# Altium schematic symbol library Altium_Box_Header_MPC3.SchLib: 202 symbols (part 3 of 5)
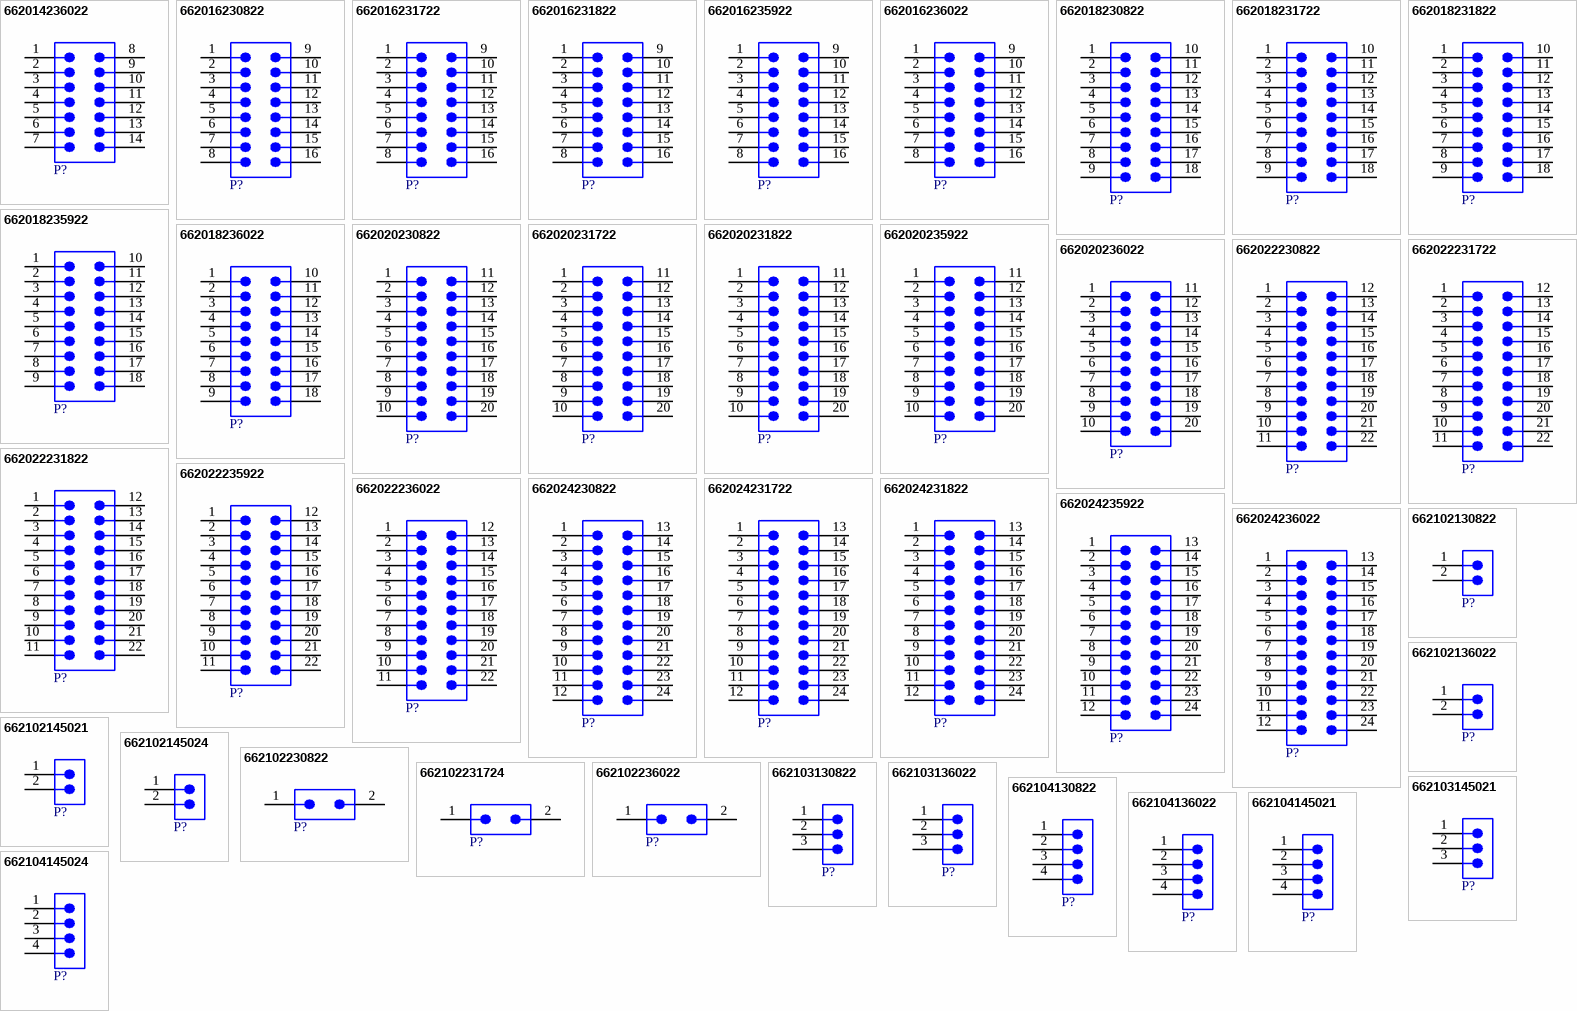
[diagram p7: symbols 662014236022 to 662104145024]

## 662022235922
designator P?  (value not drawn)
WR-MPC3 SMT Male Vertical Header with THT Retention Clip, pitch 3mm, 22p; Manufacturer: Wurth Elektronik; Contact Resistance: 10mOhm; Insulation Resistance: >1000MOhm; Rated Current: 5A; Working Voltage: 250V (AC); Manufacturer Part Number: 662022235922; Category: Wire-to-Board Connectors; Match Code: WR-MPC3; ComponentLink1Description: Datasheet; ComponentLink1URL: https://www.we-online.com/redexpert/spec/662022235922?ad; Mount: Surface Mount; Operating Temperature Max: 105°C; Operating Temperature Min: -40°C; Packaging: Tube; Length: 36.7mm; Width: 11.4mm; Height: 9.9mm; Gender: Male; Number of Pins: 22; Number of Rows: 2; Orientation: Vertical; Pitch: 3mm; LCSC Part #: N/A; Supplier 1: Mouser; Supplier 1 Part Number: N/A; Supplier 1 URL: N/A; Supplier 2: Digi-Key; Supplier 2 Part Number: N/A; Supplier 2 URL: N/A; Supplier 3: thegioiic; Supplier 3 Part Number: N/A; Supplier 3 URL: N/A
footprint 662022235922
pins: 1, 2, 3, 4, 5, 6, 7, 8, 9, 10, 11, 12, 13, 14, 15, 16, 17, 18, 19, 20, 21, 22

## 662022236022
designator P?  (value not drawn)
WR-MPC3 SMT Male Right Angled Header with Plastic Pegs, pitch 3mm, 22p; Manufacturer: Wurth Elektronik; Contact Resistance: 10mOhm; Insulation Resistance: >1000MOhm; Rated Current: 5A; Working Voltage: 250V (AC); Manufacturer Part Number: 662022236022; Category: Wire-to-Board Connectors; Match Code: WR-MPC3; ComponentLink1Description: Datasheet; ComponentLink1URL: https://www.we-online.com/redexpert/spec/662022236022?ad; Mount: Surface Mount; Operating Temperature Max: 105°C; Operating Temperature Min: -40°C; Packaging: Tube; Length: 36.7mm; Width: 9.9mm; Height: 8.76mm; Gender: Male; Number of Pins: 22; Number of Rows: 2; Orientation: Right Angled; Pitch: 3mm; LCSC Part #: N/A; Supplier 1: Mouser; Supplier 1 Part Number: N/A; Supplier 1 URL: N/A; Supplier 2: Digi-Key; Supplier 2 Part Number: N/A; Supplier 2 URL: N/A; Supplier 3: thegioiic; Supplier 3 Part Number: N/A; Supplier 3 URL: N/A
footprint 662022236022
pins: 1, 2, 3, 4, 5, 6, 7, 8, 9, 10, 11, 12, 13, 14, 15, 16, 17, 18, 19, 20, 21, 22

## 662024230822
designator P?  (value not drawn)
WR-MPC3 SMT Male Right Angled Header with THT Retention Clip, pitch 3mm, 24p; Manufacturer: Wurth Elektronik; Contact Resistance: 10mOhm; Insulation Resistance: >1000MOhm; Rated Current: 5A; Working Voltage: 250V (AC); Manufacturer Part Number: 662024230822; Category: Wire-to-Board Connectors; Match Code: WR-MPC3; ComponentLink1Description: Datasheet; ComponentLink1URL: https://www.we-online.com/redexpert/spec/662024230822?ad; Mount: Surface Mount; Operating Temperature Max: 105°C; Operating Temperature Min: -40°C; Packaging: Tube; Length: 39.7mm; Width: 9.9mm; Height: 8.76mm; Gender: Male; Number of Pins: 24; Number of Rows: 2; Orientation: Right Angled; Pitch: 3mm; LCSC Part #: N/A; Supplier 1: Mouser; Supplier 1 Part Number: N/A; Supplier 1 URL: N/A; Supplier 2: Digi-Key; Supplier 2 Part Number: N/A; Supplier 2 URL: N/A; Supplier 3: thegioiic; Supplier 3 Part Number: N/A; Supplier 3 URL: N/A
footprint 662024230822
pins: 1, 2, 3, 4, 5, 6, 7, 8, 9, 10, 11, 12, 13, 14, 15, 16, 17, 18, 19, 20, 21, 22, 23, 24

## 662024231722
designator P?  (value not drawn)
WR-MPC3 SMT Male Right Angled Header with SMT Solder Tab, pitch 3mm, 24p; Manufacturer: Wurth Elektronik; Contact Resistance: 10mOhm; Insulation Resistance: >1000MOhm; Rated Current: 5A; Working Voltage: 250V (AC); Manufacturer Part Number: 662024231722; Category: Wire-to-Board Connectors; Match Code: WR-MPC3; ComponentLink1Description: Datasheet; ComponentLink1URL: https://www.we-online.com/redexpert/spec/662024231722?ad; Mount: Surface Mount; Operating Temperature Max: 105°C; Operating Temperature Min: -40°C; Packaging: Tray; Length: 39.7mm; Width: 9.9mm; Height: 8.76mm; Gender: Male; Number of Pins: 24; Number of Rows: 2; Orientation: Right Angled; Pitch: 3mm; LCSC Part #: N/A; Supplier 1: Mouser; Supplier 1 Part Number: N/A; Supplier 1 URL: N/A; Supplier 2: Digi-Key; Supplier 2 Part Number: N/A; Supplier 2 URL: N/A; Supplier 3: thegioiic; Supplier 3 Part Number: N/A; Supplier 3 URL: N/A
footprint 662024231722
pins: 1, 2, 3, 4, 5, 6, 7, 8, 9, 10, 11, 12, 13, 14, 15, 16, 17, 18, 19, 20, 21, 22, 23, 24

## 662024231822
designator P?  (value not drawn)
WR-MPC3 SMT Male Vertical Header with SMT Solder Tab, pitch 3mm, 24p; Manufacturer: Wurth Elektronik; Contact Resistance: 10mOhm; Insulation Resistance: >1000MOhm; Rated Current: 5A; Working Voltage: 250V (AC); Manufacturer Part Number: 662024231822; Category: Wire-to-Board Connectors; Match Code: WR-MPC3; ComponentLink1Description: Datasheet; ComponentLink1URL: https://www.we-online.com/redexpert/spec/662024231822?ad; Mount: Surface Mount; Operating Temperature Max: 105°C; Operating Temperature Min: -40°C; Packaging: Tray; Length: 39.7mm; Width: 11.4mm; Height: 9.9mm; Gender: Male; Number of Pins: 24; Number of Rows: 2; Orientation: Vertical; Pitch: 3mm; LCSC Part #: N/A; Supplier 1: Mouser; Supplier 1 Part Number: N/A; Supplier 1 URL: N/A; Supplier 2: Digi-Key; Supplier 2 Part Number: N/A; Supplier 2 URL: N/A; Supplier 3: thegioiic; Supplier 3 Part Number: N/A; Supplier 3 URL: N/A
footprint 662024231822
pins: 1, 2, 3, 4, 5, 6, 7, 8, 9, 10, 11, 12, 13, 14, 15, 16, 17, 18, 19, 20, 21, 22, 23, 24

## 662024235922
designator P?  (value not drawn)
WR-MPC3 SMT Male Vertical Header with THT Retention Clip, pitch 3mm, 24p; Manufacturer: Wurth Elektronik; Contact Resistance: 10mOhm; Insulation Resistance: >1000MOhm; Rated Current: 5A; Working Voltage: 250V (AC); Manufacturer Part Number: 662024235922; Category: Wire-to-Board Connectors; Match Code: WR-MPC3; ComponentLink1Description: Datasheet; ComponentLink1URL: https://www.we-online.com/redexpert/spec/662024235922?ad; Mount: Surface Mount; Operating Temperature Max: 105°C; Operating Temperature Min: -40°C; Packaging: Tube; Length: 39.7mm; Width: 11.4mm; Height: 9.9mm; Gender: Male; Number of Pins: 24; Number of Rows: 2; Orientation: Vertical; Pitch: 3mm; LCSC Part #: N/A; Supplier 1: Mouser; Supplier 1 Part Number: N/A; Supplier 1 URL: N/A; Supplier 2: Digi-Key; Supplier 2 Part Number: N/A; Supplier 2 URL: N/A; Supplier 3: thegioiic; Supplier 3 Part Number: N/A; Supplier 3 URL: N/A
footprint 662024235922
pins: 1, 2, 3, 4, 5, 6, 7, 8, 9, 10, 11, 12, 13, 14, 15, 16, 17, 18, 19, 20, 21, 22, 23, 24

## 662024236022
designator P?  (value not drawn)
WR-MPC3 SMT Male Right Angled Header with Plastic Pegs, pitch 3mm, 24p; Manufacturer: Wurth Elektronik; Contact Resistance: 10mOhm; Insulation Resistance: >1000MOhm; Rated Current: 5A; Working Voltage: 250V (AC); Manufacturer Part Number: 662024236022; Category: Wire-to-Board Connectors; Match Code: WR-MPC3; ComponentLink1Description: Datasheet; ComponentLink1URL: https://www.we-online.com/redexpert/spec/662024236022?ad; Mount: Surface Mount; Operating Temperature Max: 105°C; Operating Temperature Min: -40°C; Packaging: Tube; Length: 39.7mm; Width: 9.9mm; Height: 8.76mm; Gender: Male; Number of Pins: 24; Number of Rows: 2; Orientation: Right Angled; Pitch: 3mm; LCSC Part #: N/A; Supplier 1: Mouser; Supplier 1 Part Number: N/A; Supplier 1 URL: N/A; Supplier 2: Digi-Key; Supplier 2 Part Number: N/A; Supplier 2 URL: N/A; Supplier 3: thegioiic; Supplier 3 Part Number: N/A; Supplier 3 URL: N/A
footprint 662024236022
pins: 1, 2, 3, 4, 5, 6, 7, 8, 9, 10, 11, 12, 13, 14, 15, 16, 17, 18, 19, 20, 21, 22, 23, 24

## 662102130822
designator P?  (value not drawn)
WR-MPC3 SMT Male Right Angled Header with THT Retention Clip, pitch 3mm, 2p; Manufacturer: Wurth Elektronik; Contact Resistance: 10mOhm; Insulation Resistance: >1000MOhm; Rated Current: 5A; Working Voltage: 250V (AC); Manufacturer Part Number: 662102130822; Category: Wire-to-Board Connectors; Match Code: WR-MPC3; ComponentLink1Description: Datasheet; ComponentLink1URL: https://www.we-online.com/redexpert/spec/662102130822?ad; Mount: Surface Mount; Operating Temperature Max: 105°C; Operating Temperature Min: -40°C; Packaging: Tape and Reel; Length: 9.65mm; Width: 11.35mm; Height: 5.57mm; Gender: Male; Number of Pins: 2; Number of Rows: 1; Orientation: Right Angled; Pitch: 3mm; LCSC Part #: N/A; Supplier 1: Mouser; Supplier 1 Part Number: N/A; Supplier 1 URL: N/A; Supplier 2: Digi-Key; Supplier 2 Part Number: N/A; Supplier 2 URL: N/A; Supplier 3: thegioiic; Supplier 3 Part Number: N/A; Supplier 3 URL: N/A
footprint 662102130822
pins: 1, 2

## 662102136022
designator P?  (value not drawn)
WR-MPC3 SMT Male Right Angled Header with Snap-In Plastic Pegs, pitch 3mm, 2p; Manufacturer: Wurth Elektronik; Contact Resistance: 10mOhm; Insulation Resistance: >1000MOhm; Rated Current: 5A; Working Voltage: 250V (AC); Manufacturer Part Number: 662102136022; Category: Wire-to-Board Connectors; Match Code: WR-MPC3; ComponentLink1Description: Datasheet; ComponentLink1URL: https://www.we-online.com/redexpert/spec/662102136022?ad; Mount: Surface Mount; Operating Temperature Max: 105°C; Operating Temperature Min: -40°C; Packaging: Tape and Reel; Length: 9.65mm; Width: 11.35mm; Height: 5.57mm; Gender: Male; Number of Pins: 2; Number of Rows: 1; Orientation: Right Angled; Pitch: 3mm; LCSC Part #: N/A; Supplier 1: Mouser; Supplier 1 Part Number: N/A; Supplier 1 URL: N/A; Supplier 2: Digi-Key; Supplier 2 Part Number: N/A; Supplier 2 URL: N/A; Supplier 3: thegioiic; Supplier 3 Part Number: N/A; Supplier 3 URL: N/A
footprint 662102136022
pins: 1, 2

## 662102145021
designator P?  (value not drawn)
WR-MPC3 SMT Male Right Angled Header with SMT Solder Tabs, pitch 3mm, 2p; Manufacturer: Wurth Elektronik; Contact Resistance: 10mOhm; Insulation Resistance: >1000MOhm; Rated Current: 5A; Working Voltage: 250V (AC); Manufacturer Part Number: 662102145021; Category: Wire-to-Board Connectors; Match Code: WR-MPC3; ComponentLink1Description: Datasheet; ComponentLink1URL: https://www.we-online.com/redexpert/spec/662102145021?ad; Mount: Surface Mount; Operating Temperature Max: 105°C; Operating Temperature Min: -40°C; Packaging: Tape and Reel; Length: 9.65mm; Width: 11.35mm; Height: 5.57mm; Gender: Male; Number of Pins: 2; Number of Rows: 1; Orientation: Right Angled; Pitch: 3mm; LCSC Part #: N/A; Supplier 1: Mouser; Supplier 1 Part Number: N/A; Supplier 1 URL: N/A; Supplier 2: Digi-Key; Supplier 2 Part Number: N/A; Supplier 2 URL: N/A; Supplier 3: thegioiic; Supplier 3 Part Number: N/A; Supplier 3 URL: N/A
footprint 662102145021
pins: 1, 2

## 662102145024
designator P?  (value not drawn)
WR-MPC3 SMT Male Header Single Row Right Angled with SMT Solder Tabs (Selective Gold), pitch 3mm, 2p; Manufacturer: Wurth Elektronik; Contact Resistance: 10mOhm; Insulation Resistance: >1000MOhm; Rated Current: 5A; Working Voltage: 250V (AC); Manufacturer Part Number: 662102145024; Category: Wire-to-Board Connectors; Match Code: WR-MPC3; ComponentLink1Description: Datasheet; ComponentLink1URL: https://www.we-online.com/redexpert/spec/662102145024?ad; Mount: Surface Mount; Operating Temperature Max: 105°C; Operating Temperature Min: -40°C; Packaging: Tape and Reel; Gender: Male; Number of Pins: 2; Number of Rows: 1; Orientation: Right Angled; Pitch: 3mm; LCSC Part #: N/A; Supplier 1: Mouser; Supplier 1 Part Number: N/A; Supplier 1 URL: N/A; Supplier 2: Digi-Key; Supplier 2 Part Number: N/A; Supplier 2 URL: N/A; Supplier 3: thegioiic; Supplier 3 Part Number: N/A; Supplier 3 URL: N/A
footprint 662102145024
pins: 1, 2

## 662102230822
designator P?  (value not drawn)
WR-MPC3 SMT Male Right Angled Header with THT Retention Clip, pitch 3mm, 2p; Manufacturer: Wurth Elektronik; Contact Resistance: 10mOhm; Insulation Resistance: >1000MOhm; Rated Current: 5A; Working Voltage: 250V (AC); Manufacturer Part Number: 662102230822; Category: Wire-to-Board Connectors; Match Code: WR-MPC3; ComponentLink1Description: Datasheet; ComponentLink1URL: https://www.we-online.com/redexpert/spec/662102230822?ad; Mount: Surface Mount; Operating Temperature Max: 105°C; Operating Temperature Min: -40°C; Packaging: Tape and Reel; Length: 6.7mm; Width: 15.9mm; Height: 8.76mm; Gender: Male; Number of Pins: 2; Number of Rows: 2; Orientation: Right Angled; Pitch: 3mm; LCSC Part #: N/A; Supplier 1: Mouser; Supplier 1 Part Number: N/A; Supplier 1 URL: N/A; Supplier 2: Digi-Key; Supplier 2 Part Number: N/A; Supplier 2 URL: N/A; Supplier 3: thegioiic; Supplier 3 Part Number: N/A; Supplier 3 URL: N/A
footprint 662102230822
pins: 1, 2

## 662102231724
designator P?  (value not drawn)
WR-MPC3 SMT Male Header Dual Row Right Angled with SMT Solder Tabs (Selective Gold), pitch 3mm, 2p; Manufacturer: Wurth Elektronik; Contact Resistance: 10mOhm; Insulation Resistance: >1000MOhm; Rated Current: 5A; Working Voltage: 250V (AC); Manufacturer Part Number: 662102231724; Category: Wire-to-Board Connectors; Match Code: WR-MPC3; ComponentLink1Description: Datasheet; ComponentLink1URL: https://www.we-online.com/redexpert/spec/662102231724?ad; Mount: Surface Mount; Operating Temperature Max: 105°C; Operating Temperature Min: -40°C; Packaging: Tape and Reel; Gender: Male; Number of Pins: 2; Number of Rows: 2; Orientation: Right Angled; Pitch: 3mm; LCSC Part #: N/A; Supplier 1: Mouser; Supplier 1 Part Number: N/A; Supplier 1 URL: N/A; Supplier 2: Digi-Key; Supplier 2 Part Number: N/A; Supplier 2 URL: N/A; Supplier 3: thegioiic; Supplier 3 Part Number: N/A; Supplier 3 URL: N/A
footprint 662102231724
pins: 1, 2

## 662102236022
designator P?  (value not drawn)
WR-MPC3 SMT Male Right Angled Header with Plastic Pegs, pitch 3mm, 2p; Manufacturer: Wurth Elektronik; Contact Resistance: 10mOhm; Insulation Resistance: >1000MOhm; Rated Current: 5A; Working Voltage: 250V (AC); Manufacturer Part Number: 662102236022; Category: Wire-to-Board Connectors; Match Code: WR-MPC3; ComponentLink1Description: Datasheet; ComponentLink1URL: https://www.we-online.com/redexpert/spec/662102236022?ad; Mount: Surface Mount; Operating Temperature Max: 105°C; Operating Temperature Min: -40°C; Packaging: Tape and Reel; Length: 6.7mm; Width: 9.9mm; Height: 8.76mm; Gender: Male; Number of Pins: 2; Number of Rows: 2; Orientation: Right Angled; Pitch: 3mm; LCSC Part #: N/A; Supplier 1: Mouser; Supplier 1 Part Number: N/A; Supplier 1 URL: N/A; Supplier 2: Digi-Key; Supplier 2 Part Number: N/A; Supplier 2 URL: N/A; Supplier 3: thegioiic; Supplier 3 Part Number: N/A; Supplier 3 URL: N/A
footprint 662102236022
pins: 1, 2

## 662103130822
designator P?  (value not drawn)
WR-MPC3 SMT Male Right Angled Header with THT Retention Clip, pitch 3mm, 3p; Manufacturer: Wurth Elektronik; Contact Resistance: 10mOhm; Insulation Resistance: >1000MOhm; Rated Current: 5A; Working Voltage: 250V (AC); Manufacturer Part Number: 662103130822; Category: Wire-to-Board Connectors; Match Code: WR-MPC3; ComponentLink1Description: Datasheet; ComponentLink1URL: https://www.we-online.com/redexpert/spec/662103130822?ad; Mount: Surface Mount; Operating Temperature Max: 105°C; Operating Temperature Min: -40°C; Packaging: Tape and Reel; Length: 12.65mm; Width: 11.35mm; Height: 5.57mm; Gender: Male; Number of Pins: 3; Number of Rows: 1; Orientation: Right Angled; Pitch: 3mm; LCSC Part #: N/A; Supplier 1: Mouser; Supplier 1 Part Number: N/A; Supplier 1 URL: N/A; Supplier 2: Digi-Key; Supplier 2 Part Number: N/A; Supplier 2 URL: N/A; Supplier 3: thegioiic; Supplier 3 Part Number: N/A; Supplier 3 URL: N/A
footprint 662103130822
pins: 1, 2, 3

## 662103136022
designator P?  (value not drawn)
WR-MPC3 SMT Male Right Angled Header with Snap-In Plastic Pegs, pitch 3mm, 3p; Manufacturer: Wurth Elektronik; Contact Resistance: 10mOhm; Insulation Resistance: >1000MOhm; Rated Current: 5A; Working Voltage: 250V (AC); Manufacturer Part Number: 662103136022; Category: Wire-to-Board Connectors; Match Code: WR-MPC3; ComponentLink1Description: Datasheet; ComponentLink1URL: https://www.we-online.com/redexpert/spec/662103136022?ad; Mount: Surface Mount; Operating Temperature Max: 105°C; Operating Temperature Min: -40°C; Packaging: Tape and Reel; Length: 12.65mm; Width: 11.35mm; Height: 5.57mm; Gender: Male; Number of Pins: 3; Number of Rows: 1; Orientation: Right Angled; Pitch: 3mm; LCSC Part #: N/A; Supplier 1: Mouser; Supplier 1 Part Number: N/A; Supplier 1 URL: N/A; Supplier 2: Digi-Key; Supplier 2 Part Number: N/A; Supplier 2 URL: N/A; Supplier 3: thegioiic; Supplier 3 Part Number: N/A; Supplier 3 URL: N/A
footprint 662103136022
pins: 1, 2, 3

## 662103145021
designator P?  (value not drawn)
WR-MPC3 SMT Male Right Angled Header with SMT Solder Tabs, pitch 3mm, 3p; Manufacturer: Wurth Elektronik; Contact Resistance: 10mOhm; Insulation Resistance: >1000MOhm; Rated Current: 5A; Working Voltage: 250V (AC); Manufacturer Part Number: 662103145021; Category: Wire-to-Board Connectors; Match Code: WR-MPC3; ComponentLink1Description: Datasheet; ComponentLink1URL: https://www.we-online.com/redexpert/spec/662103145021?ad; Mount: Surface Mount; Operating Temperature Max: 105°C; Operating Temperature Min: -40°C; Packaging: Tape and Reel; Length: 12.65mm; Width: 11.35mm; Height: 5.57mm; Gender: Male; Number of Pins: 3; Number of Rows: 1; Orientation: Right Angled; Pitch: 3mm; LCSC Part #: N/A; Supplier 1: Mouser; Supplier 1 Part Number: N/A; Supplier 1 URL: N/A; Supplier 2: Digi-Key; Supplier 2 Part Number: N/A; Supplier 2 URL: N/A; Supplier 3: thegioiic; Supplier 3 Part Number: N/A; Supplier 3 URL: N/A
footprint 662103145021
pins: 1, 2, 3

## 662104130822
designator P?  (value not drawn)
WR-MPC3 SMT Male Right Angled Header with THT Retention Clip, pitch 3mm, 4p; Manufacturer: Wurth Elektronik; Contact Resistance: 10mOhm; Insulation Resistance: >1000MOhm; Rated Current: 5A; Working Voltage: 250V (AC); Manufacturer Part Number: 662104130822; Category: Wire-to-Board Connectors; Match Code: WR-MPC3; ComponentLink1Description: Datasheet; ComponentLink1URL: https://www.we-online.com/redexpert/spec/662104130822?ad; Mount: Surface Mount; Operating Temperature Max: 105°C; Operating Temperature Min: -40°C; Packaging: Tape and Reel; Length: 15.65mm; Width: 11.35mm; Height: 5.57mm; Gender: Male; Number of Pins: 4; Number of Rows: 1; Orientation: Right Angled; Pitch: 3mm; LCSC Part #: N/A; Supplier 1: Mouser; Supplier 1 Part Number: N/A; Supplier 1 URL: N/A; Supplier 2: Digi-Key; Supplier 2 Part Number: N/A; Supplier 2 URL: N/A; Supplier 3: thegioiic; Supplier 3 Part Number: N/A; Supplier 3 URL: N/A
footprint 662104130822
pins: 1, 2, 3, 4

## 662104136022
designator P?  (value not drawn)
WR-MPC3 SMT Male Right Angled Header with Snap-In Plastic Pegs, pitch 3mm, 4p; Manufacturer: Wurth Elektronik; Contact Resistance: 10mOhm; Insulation Resistance: >1000MOhm; Rated Current: 5A; Working Voltage: 250V (AC); Manufacturer Part Number: 662104136022; Category: Wire-to-Board Connectors; Match Code: WR-MPC3; ComponentLink1Description: Datasheet; ComponentLink1URL: https://www.we-online.com/redexpert/spec/662104136022?ad; Mount: Surface Mount; Operating Temperature Max: 105°C; Operating Temperature Min: -40°C; Packaging: Tape and Reel; Length: 15.65mm; Width: 11.35mm; Height: 5.57mm; Gender: Male; Number of Pins: 4; Number of Rows: 1; Orientation: Right Angled; Pitch: 3mm; LCSC Part #: N/A; Supplier 1: Mouser; Supplier 1 Part Number: N/A; Supplier 1 URL: N/A; Supplier 2: Digi-Key; Supplier 2 Part Number: N/A; Supplier 2 URL: N/A; Supplier 3: thegioiic; Supplier 3 Part Number: N/A; Supplier 3 URL: N/A
footprint 662104136022
pins: 1, 2, 3, 4

## 662104145021
designator P?  (value not drawn)
WR-MPC3 SMT Male Right Angled Header with SMT Solder Tabs, pitch 3mm, 4p; Manufacturer: Wurth Elektronik; Contact Resistance: 10mOhm; Insulation Resistance: >1000MOhm; Rated Current: 5A; Working Voltage: 250V (AC); Manufacturer Part Number: 662104145021; Category: Wire-to-Board Connectors; Match Code: WR-MPC3; ComponentLink1Description: Datasheet; ComponentLink1URL: https://www.we-online.com/redexpert/spec/662104145021?ad; Mount: Surface Mount; Operating Temperature Max: 105°C; Operating Temperature Min: -40°C; Packaging: Tape and Reel; Length: 15.65mm; Width: 11.35mm; Height: 5.57mm; Gender: Male; Number of Pins: 4; Number of Rows: 1; Orientation: Right Angled; Pitch: 3mm; LCSC Part #: N/A; Supplier 1: Mouser; Supplier 1 Part Number: N/A; Supplier 1 URL: N/A; Supplier 2: Digi-Key; Supplier 2 Part Number: N/A; Supplier 2 URL: N/A; Supplier 3: thegioiic; Supplier 3 Part Number: N/A; Supplier 3 URL: N/A
footprint 662104145021
pins: 1, 2, 3, 4

## 662104145024
designator P?  (value not drawn)
WR-MPC3 SMT Male Header Single Row Right Angled with SMT Solder Tabs (Selective Gold), pitch 3mm, 4p; Manufacturer: Wurth Elektronik; Contact Resistance: 10mOhm; Insulation Resistance: >1000MOhm; Rated Current: 5A; Working Voltage: 250V (AC); Manufacturer Part Number: 662104145024; Category: Wire-to-Board Connectors; Match Code: WR-MPC3; ComponentLink1Description: Datasheet; ComponentLink1URL: https://www.we-online.com/redexpert/spec/662104145024?ad; Mount: Surface Mount; Operating Temperature Max: 105°C; Operating Temperature Min: -40°C; Packaging: Tape and Reel; Gender: Male; Number of Pins: 4; Number of Rows: 1; Orientation: Right Angled; Pitch: 3mm; LCSC Part #: N/A; Supplier 1: Mouser; Supplier 1 Part Number: N/A; Supplier 1 URL: N/A; Supplier 2: Digi-Key; Supplier 2 Part Number: N/A; Supplier 2 URL: N/A; Supplier 3: thegioiic; Supplier 3 Part Number: N/A; Supplier 3 URL: N/A
footprint 662104145024
pins: 1, 2, 3, 4

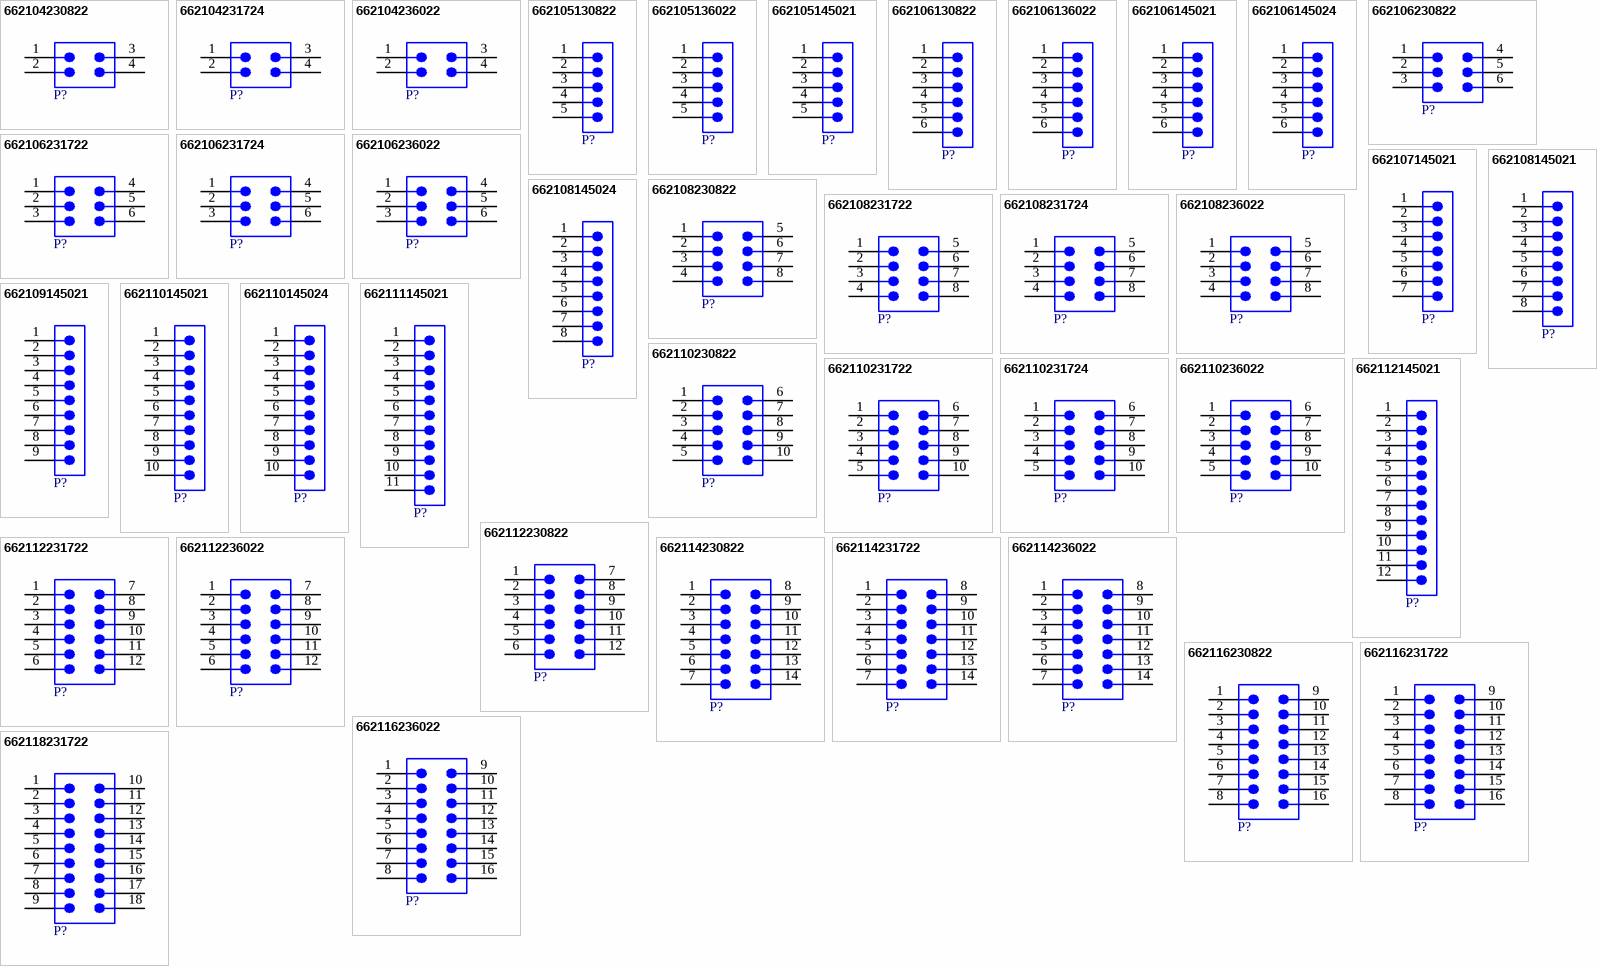
[diagram p3: symbols 662104230822 to 662118231722]

## 662104230822
designator P?  (value not drawn)
WR-MPC3 SMT Male Right Angled Header with THT Retention Clip, pitch 3mm, 4p; Manufacturer: Wurth Elektronik; Contact Resistance: 10mOhm; Insulation Resistance: >1000MOhm; Rated Current: 5A; Working Voltage: 250V (AC); Manufacturer Part Number: 662104230822; Category: Wire-to-Board Connectors; Match Code: WR-MPC3; ComponentLink1Description: Datasheet; ComponentLink1URL: https://www.we-online.com/redexpert/spec/662104230822?ad; Mount: Surface Mount; Operating Temperature Max: 105°C; Operating Temperature Min: -40°C; Packaging: Tape and Reel; Length: 9.7mm; Width: 15.9mm; Height: 8.76mm; Gender: Male; Number of Pins: 4; Number of Rows: 2; Orientation: Right Angled; Pitch: 3mm; LCSC Part #: N/A; Supplier 1: Mouser; Supplier 1 Part Number: N/A; Supplier 1 URL: N/A; Supplier 2: Digi-Key; Supplier 2 Part Number: N/A; Supplier 2 URL: N/A; Supplier 3: thegioiic; Supplier 3 Part Number: N/A; Supplier 3 URL: N/A
footprint 662104230822
pins: 1, 2, 3, 4

## 662104231724
designator P?  (value not drawn)
WR-MPC3 SMT Male Header Dual Row Right Angled with SMT Solder Tabs (Selective Gold), pitch 3mm, 4p; Manufacturer: Wurth Elektronik; Contact Resistance: 10mOhm; Insulation Resistance: >1000MOhm; Rated Current: 5A; Working Voltage: 250V (AC); Manufacturer Part Number: 662104231724; Category: Wire-to-Board Connectors; Match Code: WR-MPC3; ComponentLink1Description: Datasheet; ComponentLink1URL: https://www.we-online.com/redexpert/spec/662104231724?ad; Mount: Surface Mount; Operating Temperature Max: 105°C; Operating Temperature Min: -40°C; Packaging: Tape and Reel; Gender: Male; Number of Pins: 4; Number of Rows: 2; Orientation: Right Angled; Pitch: 3mm; LCSC Part #: N/A; Supplier 1: Mouser; Supplier 1 Part Number: N/A; Supplier 1 URL: N/A; Supplier 2: Digi-Key; Supplier 2 Part Number: N/A; Supplier 2 URL: N/A; Supplier 3: thegioiic; Supplier 3 Part Number: N/A; Supplier 3 URL: N/A
footprint 662104231724
pins: 1, 2, 3, 4

## 662104236022
designator P?  (value not drawn)
WR-MPC3 SMT Male Right Angled Header with Plastic Pegs, pitch 3mm, 4p; Manufacturer: Wurth Elektronik; Contact Resistance: 10mOhm; Insulation Resistance: >1000MOhm; Rated Current: 5A; Working Voltage: 250V (AC); Manufacturer Part Number: 662104236022; Category: Wire-to-Board Connectors; Match Code: WR-MPC3; ComponentLink1Description: Datasheet; ComponentLink1URL: https://www.we-online.com/redexpert/spec/662104236022?ad; Mount: Surface Mount; Operating Temperature Max: 105°C; Operating Temperature Min: -40°C; Packaging: Tape and Reel; Length: 9.7mm; Width: 9.9mm; Height: 8.76mm; Gender: Male; Number of Pins: 4; Number of Rows: 2; Orientation: Right Angled; Pitch: 3mm; LCSC Part #: N/A; Supplier 1: Mouser; Supplier 1 Part Number: N/A; Supplier 1 URL: N/A; Supplier 2: Digi-Key; Supplier 2 Part Number: N/A; Supplier 2 URL: N/A; Supplier 3: thegioiic; Supplier 3 Part Number: N/A; Supplier 3 URL: N/A
footprint 662104236022
pins: 1, 2, 3, 4

## 662105130822
designator P?  (value not drawn)
WR-MPC3 SMT Male Right Angled Header with THT Retention Clip, pitch 3mm, 5p; Manufacturer: Wurth Elektronik; Contact Resistance: 10mOhm; Insulation Resistance: >1000MOhm; Rated Current: 5A; Working Voltage: 250V (AC); Manufacturer Part Number: 662105130822; Category: Wire-to-Board Connectors; Match Code: WR-MPC3; ComponentLink1Description: Datasheet; ComponentLink1URL: https://www.we-online.com/redexpert/spec/662105130822?ad; Mount: Surface Mount; Operating Temperature Max: 105°C; Operating Temperature Min: -40°C; Packaging: Tape and Reel; Length: 18.65mm; Width: 11.35mm; Height: 5.57mm; Gender: Male; Number of Pins: 5; Number of Rows: 1; Orientation: Right Angled; Pitch: 3mm; LCSC Part #: N/A; Supplier 1: Mouser; Supplier 1 Part Number: N/A; Supplier 1 URL: N/A; Supplier 2: Digi-Key; Supplier 2 Part Number: N/A; Supplier 2 URL: N/A; Supplier 3: thegioiic; Supplier 3 Part Number: N/A; Supplier 3 URL: N/A
footprint 662105130822
pins: 1, 2, 3, 4, 5

## 662105136022
designator P?  (value not drawn)
WR-MPC3 SMT Male Right Angled Header with Snap-In Plastic Pegs, pitch 3mm, 5p; Manufacturer: Wurth Elektronik; Contact Resistance: 10mOhm; Insulation Resistance: >1000MOhm; Rated Current: 5A; Working Voltage: 250V (AC); Manufacturer Part Number: 662105136022; Category: Wire-to-Board Connectors; Match Code: WR-MPC3; ComponentLink1Description: Datasheet; ComponentLink1URL: https://www.we-online.com/redexpert/spec/662105136022?ad; Mount: Surface Mount; Operating Temperature Max: 105°C; Operating Temperature Min: -40°C; Packaging: Tape and Reel; Length: 18.65mm; Width: 11.35mm; Height: 5.57mm; Gender: Male; Number of Pins: 5; Number of Rows: 1; Orientation: Right Angled; Pitch: 3mm; LCSC Part #: N/A; Supplier 1: Mouser; Supplier 1 Part Number: N/A; Supplier 1 URL: N/A; Supplier 2: Digi-Key; Supplier 2 Part Number: N/A; Supplier 2 URL: N/A; Supplier 3: thegioiic; Supplier 3 Part Number: N/A; Supplier 3 URL: N/A
footprint 662105136022
pins: 1, 2, 3, 4, 5

## 662105145021
designator P?  (value not drawn)
WR-MPC3 SMT Male Right Angled Header with SMT Solder Tabs, pitch 3mm, 5p; Manufacturer: Wurth Elektronik; Contact Resistance: 10mOhm; Insulation Resistance: >1000MOhm; Rated Current: 5A; Working Voltage: 250V (AC); Manufacturer Part Number: 662105145021; Category: Wire-to-Board Connectors; Match Code: WR-MPC3; ComponentLink1Description: Datasheet; ComponentLink1URL: https://www.we-online.com/redexpert/spec/662105145021?ad; Mount: Surface Mount; Operating Temperature Max: 105°C; Operating Temperature Min: -40°C; Packaging: Tape and Reel; Length: 18.65mm; Width: 11.35mm; Height: 5.57mm; Gender: Male; Number of Pins: 5; Number of Rows: 1; Orientation: Right Angled; Pitch: 3mm; LCSC Part #: N/A; Supplier 1: Mouser; Supplier 1 Part Number: N/A; Supplier 1 URL: N/A; Supplier 2: Digi-Key; Supplier 2 Part Number: N/A; Supplier 2 URL: N/A; Supplier 3: thegioiic; Supplier 3 Part Number: N/A; Supplier 3 URL: N/A
footprint 662105145021
pins: 1, 2, 3, 4, 5

## 662106130822
designator P?  (value not drawn)
WR-MPC3 SMT Male Right Angled Header with THT Retention Clip, pitch 3mm, 6p; Manufacturer: Wurth Elektronik; Contact Resistance: 10mOhm; Insulation Resistance: >1000MOhm; Rated Current: 5A; Working Voltage: 250V (AC); Manufacturer Part Number: 662106130822; Category: Wire-to-Board Connectors; Match Code: WR-MPC3; ComponentLink1Description: Datasheet; ComponentLink1URL: https://www.we-online.com/redexpert/spec/662106130822?ad; Mount: Surface Mount; Operating Temperature Max: 105°C; Operating Temperature Min: -40°C; Packaging: Tape and Reel; Length: 21.65mm; Width: 11.35mm; Height: 5.57mm; Gender: Male; Number of Pins: 6; Number of Rows: 1; Orientation: Right Angled; Pitch: 3mm; LCSC Part #: N/A; Supplier 1: Mouser; Supplier 1 Part Number: N/A; Supplier 1 URL: N/A; Supplier 2: Digi-Key; Supplier 2 Part Number: N/A; Supplier 2 URL: N/A; Supplier 3: thegioiic; Supplier 3 Part Number: N/A; Supplier 3 URL: N/A
footprint 662106130822
pins: 1, 2, 3, 4, 5, 6

## 662106136022
designator P?  (value not drawn)
WR-MPC3 SMT Male Right Angled Header with Snap-In Plastic Pegs, pitch 3mm, 6p; Manufacturer: Wurth Elektronik; Contact Resistance: 10mOhm; Insulation Resistance: >1000MOhm; Rated Current: 5A; Working Voltage: 250V (AC); Manufacturer Part Number: 662106136022; Category: Wire-to-Board Connectors; Match Code: WR-MPC3; ComponentLink1Description: Datasheet; ComponentLink1URL: https://www.we-online.com/redexpert/spec/662106136022?ad; Mount: Surface Mount; Operating Temperature Max: 105°C; Operating Temperature Min: -40°C; Packaging: Tape and Reel; Length: 21.65mm; Width: 11.35mm; Height: 5.57mm; Gender: Male; Number of Pins: 6; Number of Rows: 1; Orientation: Right Angled; Pitch: 3mm; LCSC Part #: N/A; Supplier 1: Mouser; Supplier 1 Part Number: N/A; Supplier 1 URL: N/A; Supplier 2: Digi-Key; Supplier 2 Part Number: N/A; Supplier 2 URL: N/A; Supplier 3: thegioiic; Supplier 3 Part Number: N/A; Supplier 3 URL: N/A
footprint 662106136022
pins: 1, 2, 3, 4, 5, 6

## 662106145021
designator P?  (value not drawn)
WR-MPC3 SMT Male Right Angled Header with SMT Solder Tabs, pitch 3mm, 6p; Manufacturer: Wurth Elektronik; Contact Resistance: 10mOhm; Insulation Resistance: >1000MOhm; Rated Current: 5A; Working Voltage: 250V (AC); Manufacturer Part Number: 662106145021; Category: Wire-to-Board Connectors; Match Code: WR-MPC3; ComponentLink1Description: Datasheet; ComponentLink1URL: https://www.we-online.com/redexpert/spec/662106145021?ad; Mount: Surface Mount; Operating Temperature Max: 105°C; Operating Temperature Min: -40°C; Packaging: Tape and Reel; Length: 21.65mm; Width: 11.35mm; Height: 5.57mm; Gender: Male; Number of Pins: 6; Number of Rows: 1; Orientation: Right Angled; Pitch: 3mm; LCSC Part #: N/A; Supplier 1: Mouser; Supplier 1 Part Number: N/A; Supplier 1 URL: N/A; Supplier 2: Digi-Key; Supplier 2 Part Number: N/A; Supplier 2 URL: N/A; Supplier 3: thegioiic; Supplier 3 Part Number: N/A; Supplier 3 URL: N/A
footprint 662106145021
pins: 1, 2, 3, 4, 5, 6

## 662106145024
designator P?  (value not drawn)
WR-MPC3 SMT Male Header Single Row Right Angled with SMT Solder Tabs (Selective Gold), pitch 3mm, 6p; Manufacturer: Wurth Elektronik; Contact Resistance: 10mOhm; Insulation Resistance: >1000MOhm; Rated Current: 5A; Working Voltage: 250V (AC); Manufacturer Part Number: 662106145024; Category: Wire-to-Board Connectors; Match Code: WR-MPC3; ComponentLink1Description: Datasheet; ComponentLink1URL: https://www.we-online.com/redexpert/spec/662106145024?ad; Mount: Surface Mount; Operating Temperature Max: 105°C; Operating Temperature Min: -40°C; Packaging: Tape and Reel; Gender: Male; Number of Pins: 6; Number of Rows: 1; Orientation: Right Angled; Pitch: 3mm; LCSC Part #: N/A; Supplier 1: Mouser; Supplier 1 Part Number: N/A; Supplier 1 URL: N/A; Supplier 2: Digi-Key; Supplier 2 Part Number: N/A; Supplier 2 URL: N/A; Supplier 3: thegioiic; Supplier 3 Part Number: N/A; Supplier 3 URL: N/A
footprint 662106145024
pins: 1, 2, 3, 4, 5, 6

## 662106230822
designator P?  (value not drawn)
WR-MPC3 SMT Male Right Angled Header with THT Retention Clip, pitch 3mm, 6p; Manufacturer: Wurth Elektronik; Contact Resistance: 10mOhm; Insulation Resistance: >1000MOhm; Rated Current: 5A; Working Voltage: 250V (AC); Manufacturer Part Number: 662106230822; Category: Wire-to-Board Connectors; Match Code: WR-MPC3; ComponentLink1Description: Datasheet; ComponentLink1URL: https://www.we-online.com/redexpert/spec/662106230822?ad; Mount: Surface Mount; Operating Temperature Max: 105°C; Operating Temperature Min: -40°C; Packaging: Tape and Reel; Length: 12.7mm; Width: 15.9mm; Height: 8.76mm; Gender: Male; Number of Pins: 6; Number of Rows: 2; Orientation: Right Angled; Pitch: 3mm; LCSC Part #: N/A; Supplier 1: Mouser; Supplier 1 Part Number: N/A; Supplier 1 URL: N/A; Supplier 2: Digi-Key; Supplier 2 Part Number: N/A; Supplier 2 URL: N/A; Supplier 3: thegioiic; Supplier 3 Part Number: N/A; Supplier 3 URL: N/A
footprint 662106230822
pins: 1, 2, 3, 4, 5, 6

## 662106231722
designator P?  (value not drawn)
WR-MPC3 SMT Male Right Angled Header with SMT Solder Tab, pitch 3mm, 6p; Manufacturer: Wurth Elektronik; Contact Resistance: 10mOhm; Insulation Resistance: >1000MOhm; Rated Current: 5A; Working Voltage: 250V (AC); Manufacturer Part Number: 662106231722; Category: Wire-to-Board Connectors; Match Code: WR-MPC3; ComponentLink1Description: Datasheet; ComponentLink1URL: https://www.we-online.com/redexpert/spec/662106231722?ad; Mount: Surface Mount; Operating Temperature Max: 105°C; Operating Temperature Min: -40°C; Packaging: Tape and Reel; Length: 12.7mm; Width: 9.9mm; Height: 8.76mm; Gender: Male; Number of Pins: 6; Number of Rows: 2; Orientation: Right Angled; Pitch: 3mm; LCSC Part #: N/A; Supplier 1: Mouser; Supplier 1 Part Number: N/A; Supplier 1 URL: N/A; Supplier 2: Digi-Key; Supplier 2 Part Number: N/A; Supplier 2 URL: N/A; Supplier 3: thegioiic; Supplier 3 Part Number: N/A; Supplier 3 URL: N/A
footprint 662106231722
pins: 1, 2, 3, 4, 5, 6

## 662106231724
designator P?  (value not drawn)
WR-MPC3 SMT Male Header Dual Row Right Angled with SMT Solder Tabs (Selective Gold), pitch 3mm, 6p; Manufacturer: Wurth Elektronik; Contact Resistance: 10mOhm; Insulation Resistance: >1000MOhm; Rated Current: 5A; Working Voltage: 250V (AC); Manufacturer Part Number: 662106231724; Category: Wire-to-Board Connectors; Match Code: WR-MPC3; ComponentLink1Description: Datasheet; ComponentLink1URL: https://www.we-online.com/redexpert/spec/662106231724?ad; Mount: Surface Mount; Operating Temperature Max: 105°C; Operating Temperature Min: -40°C; Packaging: Tape and Reel; Gender: Male; Number of Pins: 6; Number of Rows: 2; Orientation: Right Angled; Pitch: 3mm; LCSC Part #: N/A; Supplier 1: Mouser; Supplier 1 Part Number: N/A; Supplier 1 URL: N/A; Supplier 2: Digi-Key; Supplier 2 Part Number: N/A; Supplier 2 URL: N/A; Supplier 3: thegioiic; Supplier 3 Part Number: N/A; Supplier 3 URL: N/A
footprint 662106231724
pins: 1, 2, 3, 4, 5, 6

## 662106236022
designator P?  (value not drawn)
WR-MPC3 SMT Male Right Angled Header with Plastic Pegs, pitch 3mm, 6p; Manufacturer: Wurth Elektronik; Contact Resistance: 10mOhm; Insulation Resistance: >1000MOhm; Rated Current: 5A; Working Voltage: 250V (AC); Manufacturer Part Number: 662106236022; Category: Wire-to-Board Connectors; Match Code: WR-MPC3; ComponentLink1Description: Datasheet; ComponentLink1URL: https://www.we-online.com/redexpert/spec/662106236022?ad; Mount: Surface Mount; Operating Temperature Max: 105°C; Operating Temperature Min: -40°C; Packaging: Tape and Reel; Length: 12.7mm; Width: 9.9mm; Height: 8.76mm; Gender: Male; Number of Pins: 6; Number of Rows: 2; Orientation: Right Angled; Pitch: 3mm; LCSC Part #: N/A; Supplier 1: Mouser; Supplier 1 Part Number: N/A; Supplier 1 URL: N/A; Supplier 2: Digi-Key; Supplier 2 Part Number: N/A; Supplier 2 URL: N/A; Supplier 3: thegioiic; Supplier 3 Part Number: N/A; Supplier 3 URL: N/A
footprint 662106236022
pins: 1, 2, 3, 4, 5, 6

## 662107145021
designator P?  (value not drawn)
WR-MPC3 SMT Male Right Angled Header with SMT Solder Tabs, pitch 3mm, 7p; Manufacturer: Wurth Elektronik; Contact Resistance: 10mOhm; Insulation Resistance: >1000MOhm; Rated Current: 5A; Working Voltage: 250V (AC); Manufacturer Part Number: 662107145021; Category: Wire-to-Board Connectors; Match Code: WR-MPC3; ComponentLink1Description: Datasheet; ComponentLink1URL: https://www.we-online.com/redexpert/spec/662107145021?ad; Mount: Surface Mount; Operating Temperature Max: 105°C; Operating Temperature Min: -40°C; Packaging: Tape and Reel; Length: 24.65mm; Width: 11.35mm; Height: 5.57mm; Gender: Male; Number of Pins: 7; Number of Rows: 1; Orientation: Right Angled; Pitch: 3mm; LCSC Part #: N/A; Supplier 1: Mouser; Supplier 1 Part Number: N/A; Supplier 1 URL: N/A; Supplier 2: Digi-Key; Supplier 2 Part Number: N/A; Supplier 2 URL: N/A; Supplier 3: thegioiic; Supplier 3 Part Number: N/A; Supplier 3 URL: N/A
footprint 662107145021
pins: 1, 2, 3, 4, 5, 6, 7

## 662108145021
designator P?  (value not drawn)
WR-MPC3 SMT Male Right Angled Header with SMT Solder Tabs, pitch 3mm, 8p; Manufacturer: Wurth Elektronik; Contact Resistance: 10mOhm; Insulation Resistance: >1000MOhm; Rated Current: 5A; Working Voltage: 250V (AC); Manufacturer Part Number: 662108145021; Category: Wire-to-Board Connectors; Match Code: WR-MPC3; ComponentLink1Description: Datasheet; ComponentLink1URL: https://www.we-online.com/redexpert/spec/662108145021?ad; Mount: Surface Mount; Operating Temperature Max: 105°C; Operating Temperature Min: -40°C; Packaging: Tape and Reel; Length: 27.65mm; Width: 11.35mm; Height: 5.57mm; Gender: Male; Number of Pins: 8; Number of Rows: 1; Orientation: Right Angled; Pitch: 3mm; LCSC Part #: N/A; Supplier 1: Mouser; Supplier 1 Part Number: N/A; Supplier 1 URL: N/A; Supplier 2: Digi-Key; Supplier 2 Part Number: N/A; Supplier 2 URL: N/A; Supplier 3: thegioiic; Supplier 3 Part Number: N/A; Supplier 3 URL: N/A
footprint 662108145021
pins: 1, 2, 3, 4, 5, 6, 7, 8

## 662108145024
designator P?  (value not drawn)
WR-MPC3 SMT Male Header Single Row Right Angled with SMT Solder Tabs (Selective Gold), pitch 3mm, 8p; Manufacturer: Wurth Elektronik; Contact Resistance: 10mOhm; Insulation Resistance: >1000MOhm; Rated Current: 5A; Working Voltage: 250V (AC); Manufacturer Part Number: 662108145024; Category: Wire-to-Board Connectors; Match Code: WR-MPC3; ComponentLink1Description: Datasheet; ComponentLink1URL: https://www.we-online.com/redexpert/spec/662108145024?ad; Mount: Surface Mount; Operating Temperature Max: 105°C; Operating Temperature Min: -40°C; Packaging: Tape and Reel; Gender: Male; Number of Pins: 8; Number of Rows: 1; Orientation: Right Angled; Pitch: 3mm; LCSC Part #: N/A; Supplier 1: Mouser; Supplier 1 Part Number: N/A; Supplier 1 URL: N/A; Supplier 2: Digi-Key; Supplier 2 Part Number: N/A; Supplier 2 URL: N/A; Supplier 3: thegioiic; Supplier 3 Part Number: N/A; Supplier 3 URL: N/A
footprint 662108145024
pins: 1, 2, 3, 4, 5, 6, 7, 8

## 662108230822
designator P?  (value not drawn)
WR-MPC3 SMT Male Right Angled Header with THT Retention Clip, pitch 3mm, 8p; Manufacturer: Wurth Elektronik; Contact Resistance: 10mOhm; Insulation Resistance: >1000MOhm; Rated Current: 5A; Working Voltage: 250V (AC); Manufacturer Part Number: 662108230822; Category: Wire-to-Board Connectors; Match Code: WR-MPC3; ComponentLink1Description: Datasheet; ComponentLink1URL: https://www.we-online.com/redexpert/spec/662108230822?ad; Mount: Surface Mount; Operating Temperature Max: 105°C; Operating Temperature Min: -40°C; Packaging: Tape and Reel; Length: 15.7mm; Width: 15.9mm; Height: 8.76mm; Gender: Male; Number of Pins: 8; Number of Rows: 2; Orientation: Right Angled; Pitch: 3mm; LCSC Part #: N/A; Supplier 1: Mouser; Supplier 1 Part Number: N/A; Supplier 1 URL: N/A; Supplier 2: Digi-Key; Supplier 2 Part Number: N/A; Supplier 2 URL: N/A; Supplier 3: thegioiic; Supplier 3 Part Number: N/A; Supplier 3 URL: N/A
footprint 662108230822
pins: 1, 2, 3, 4, 5, 6, 7, 8

## 662108231722
designator P?  (value not drawn)
WR-MPC3 SMT Male Right Angled Header with SMT Solder Tab, pitch 3mm, 8p; Manufacturer: Wurth Elektronik; Contact Resistance: 10mOhm; Insulation Resistance: >1000MOhm; Rated Current: 5A; Working Voltage: 250V (AC); Manufacturer Part Number: 662108231722; Category: Wire-to-Board Connectors; Match Code: WR-MPC3; ComponentLink1Description: Datasheet; ComponentLink1URL: https://www.we-online.com/redexpert/spec/662108231722?ad; Mount: Surface Mount; Operating Temperature Max: 105°C; Operating Temperature Min: -40°C; Packaging: Tape and Reel; Length: 15.7mm; Width: 9.9mm; Height: 8.76mm; Gender: Male; Number of Pins: 8; Number of Rows: 2; Orientation: Right Angled; Pitch: 3mm; LCSC Part #: N/A; Supplier 1: Mouser; Supplier 1 Part Number: N/A; Supplier 1 URL: N/A; Supplier 2: Digi-Key; Supplier 2 Part Number: N/A; Supplier 2 URL: N/A; Supplier 3: thegioiic; Supplier 3 Part Number: N/A; Supplier 3 URL: N/A
footprint 662108231722
pins: 1, 2, 3, 4, 5, 6, 7, 8

## 662108231724
designator P?  (value not drawn)
WR-MPC3 SMT Male Header Dual Row Right Angled with SMT Solder Tabs (Selective Gold), pitch 3mm, 8p; Manufacturer: Wurth Elektronik; Contact Resistance: 10mOhm; Insulation Resistance: >1000MOhm; Rated Current: 5A; Working Voltage: 250V (AC); Manufacturer Part Number: 662108231724; Category: Wire-to-Board Connectors; Match Code: WR-MPC3; ComponentLink1Description: Datasheet; ComponentLink1URL: https://www.we-online.com/redexpert/spec/662108231724?ad; Mount: Surface Mount; Operating Temperature Max: 105°C; Operating Temperature Min: -40°C; Packaging: Tape and Reel; Gender: Male; Number of Pins: 8; Number of Rows: 2; Orientation: Right Angled; Pitch: 3mm; LCSC Part #: N/A; Supplier 1: Mouser; Supplier 1 Part Number: N/A; Supplier 1 URL: N/A; Supplier 2: Digi-Key; Supplier 2 Part Number: N/A; Supplier 2 URL: N/A; Supplier 3: thegioiic; Supplier 3 Part Number: N/A; Supplier 3 URL: N/A
footprint 662108231724
pins: 1, 2, 3, 4, 5, 6, 7, 8

## 662108236022
designator P?  (value not drawn)
WR-MPC3 SMT Male Right Angled Header with Plastic Pegs, pitch 3mm, 8p; Manufacturer: Wurth Elektronik; Contact Resistance: 10mOhm; Insulation Resistance: >1000MOhm; Rated Current: 5A; Working Voltage: 250V (AC); Manufacturer Part Number: 662108236022; Category: Wire-to-Board Connectors; Match Code: WR-MPC3; ComponentLink1Description: Datasheet; ComponentLink1URL: https://www.we-online.com/redexpert/spec/662108236022?ad; Mount: Surface Mount; Operating Temperature Max: 105°C; Operating Temperature Min: -40°C; Packaging: Tape and Reel; Length: 15.7mm; Width: 9.9mm; Height: 8.76mm; Gender: Male; Number of Pins: 8; Number of Rows: 2; Orientation: Right Angled; Pitch: 3mm; LCSC Part #: N/A; Supplier 1: Mouser; Supplier 1 Part Number: N/A; Supplier 1 URL: N/A; Supplier 2: Digi-Key; Supplier 2 Part Number: N/A; Supplier 2 URL: N/A; Supplier 3: thegioiic; Supplier 3 Part Number: N/A; Supplier 3 URL: N/A
footprint 662108236022
pins: 1, 2, 3, 4, 5, 6, 7, 8

## 662109145021
designator P?  (value not drawn)
WR-MPC3 SMT Male Right Angled Header with SMT Solder Tabs, pitch 3mm, 9p; Manufacturer: Wurth Elektronik; Contact Resistance: 10mOhm; Insulation Resistance: >1000MOhm; Rated Current: 5A; Working Voltage: 250V (AC); Manufacturer Part Number: 662109145021; Category: Wire-to-Board Connectors; Match Code: WR-MPC3; ComponentLink1Description: Datasheet; ComponentLink1URL: https://www.we-online.com/redexpert/spec/662109145021?ad; Mount: Surface Mount; Operating Temperature Max: 105°C; Operating Temperature Min: -40°C; Packaging: Tape and Reel; Length: 30.65mm; Width: 11.35mm; Height: 5.57mm; Gender: Male; Number of Pins: 9; Number of Rows: 1; Orientation: Right Angled; Pitch: 3mm; LCSC Part #: N/A; Supplier 1: Mouser; Supplier 1 Part Number: N/A; Supplier 1 URL: N/A; Supplier 2: Digi-Key; Supplier 2 Part Number: N/A; Supplier 2 URL: N/A; Supplier 3: thegioiic; Supplier 3 Part Number: N/A; Supplier 3 URL: N/A
footprint 662109145021
pins: 1, 2, 3, 4, 5, 6, 7, 8, 9

## 662110145021
designator P?  (value not drawn)
WR-MPC3 SMT Male Right Angled Header with SMT Solder Tabs, pitch 3mm, 10p; Manufacturer: Wurth Elektronik; Contact Resistance: 10mOhm; Insulation Resistance: >1000MOhm; Rated Current: 5A; Working Voltage: 250V (AC); Manufacturer Part Number: 662110145021; Category: Wire-to-Board Connectors; Match Code: WR-MPC3; ComponentLink1Description: Datasheet; ComponentLink1URL: https://www.we-online.com/redexpert/spec/662110145021?ad; Mount: Surface Mount; Operating Temperature Max: 105°C; Operating Temperature Min: -40°C; Packaging: Tape and Reel; Length: 33.65mm; Width: 11.35mm; Height: 5.57mm; Gender: Male; Number of Pins: 10; Number of Rows: 1; Orientation: Right Angled; Pitch: 3mm; LCSC Part #: N/A; Supplier 1: Mouser; Supplier 1 Part Number: N/A; Supplier 1 URL: N/A; Supplier 2: Digi-Key; Supplier 2 Part Number: N/A; Supplier 2 URL: N/A; Supplier 3: thegioiic; Supplier 3 Part Number: N/A; Supplier 3 URL: N/A
footprint 662110145021
pins: 1, 2, 3, 4, 5, 6, 7, 8, 9, 10

## 662110145024
designator P?  (value not drawn)
WR-MPC3 SMT Male Header Single Row Right Angled with SMT Solder Tabs (Selective Gold), pitch 3mm, 10p; Manufacturer: Wurth Elektronik; Contact Resistance: 10mOhm; Insulation Resistance: >1000MOhm; Rated Current: 5A; Working Voltage: 250V (AC); Manufacturer Part Number: 662110145024; Category: Wire-to-Board Connectors; Match Code: WR-MPC3; ComponentLink1Description: Datasheet; ComponentLink1URL: https://www.we-online.com/redexpert/spec/662110145024?ad; Mount: Surface Mount; Operating Temperature Max: 105°C; Operating Temperature Min: -40°C; Packaging: Tape and Reel; Gender: Male; Number of Pins: 10; Number of Rows: 1; Orientation: Right Angled; Pitch: 3mm; LCSC Part #: N/A; Supplier 1: Mouser; Supplier 1 Part Number: N/A; Supplier 1 URL: N/A; Supplier 2: Digi-Key; Supplier 2 Part Number: N/A; Supplier 2 URL: N/A; Supplier 3: thegioiic; Supplier 3 Part Number: N/A; Supplier 3 URL: N/A
footprint 662110145024
pins: 1, 2, 3, 4, 5, 6, 7, 8, 9, 10

## 662110230822
designator P?  (value not drawn)
WR-MPC3 SMT Male Right Angled Header with THT Retention Clip, pitch 3mm, 10p; Manufacturer: Wurth Elektronik; Contact Resistance: 10mOhm; Insulation Resistance: >1000MOhm; Rated Current: 5A; Working Voltage: 250V (AC); Manufacturer Part Number: 662110230822; Category: Wire-to-Board Connectors; Match Code: WR-MPC3; ComponentLink1Description: Datasheet; ComponentLink1URL: https://www.we-online.com/redexpert/spec/662110230822?ad; Mount: Surface Mount; Operating Temperature Max: 105°C; Operating Temperature Min: -40°C; Packaging: Tape and Reel; Length: 18.7mm; Width: 15.9mm; Height: 8.76mm; Gender: Male; Number of Pins: 10; Number of Rows: 2; Orientation: Right Angled; Pitch: 3mm; LCSC Part #: N/A; Supplier 1: Mouser; Supplier 1 Part Number: N/A; Supplier 1 URL: N/A; Supplier 2: Digi-Key; Supplier 2 Part Number: N/A; Supplier 2 URL: N/A; Supplier 3: thegioiic; Supplier 3 Part Number: N/A; Supplier 3 URL: N/A
footprint 662110230822
pins: 1, 2, 3, 4, 5, 6, 7, 8, 9, 10

## 662110231722
designator P?  (value not drawn)
WR-MPC3 SMT Male Right Angled Header with SMT Solder Tab, pitch 3mm, 10p; Manufacturer: Wurth Elektronik; Contact Resistance: 10mOhm; Insulation Resistance: >1000MOhm; Rated Current: 5A; Working Voltage: 250V (AC); Manufacturer Part Number: 662110231722; Category: Wire-to-Board Connectors; Match Code: WR-MPC3; ComponentLink1Description: Datasheet; ComponentLink1URL: https://www.we-online.com/redexpert/spec/662110231722?ad; Mount: Surface Mount; Operating Temperature Max: 105°C; Operating Temperature Min: -40°C; Packaging: Tape and Reel; Length: 18.7mm; Width: 9.9mm; Height: 8.76mm; Gender: Male; Number of Pins: 10; Number of Rows: 2; Orientation: Right Angled; Pitch: 3mm; LCSC Part #: N/A; Supplier 1: Mouser; Supplier 1 Part Number: N/A; Supplier 1 URL: N/A; Supplier 2: Digi-Key; Supplier 2 Part Number: N/A; Supplier 2 URL: N/A; Supplier 3: thegioiic; Supplier 3 Part Number: N/A; Supplier 3 URL: N/A
footprint 662110231722
pins: 1, 2, 3, 4, 5, 6, 7, 8, 9, 10

## 662110231724
designator P?  (value not drawn)
WR-MPC3 SMT Male Header Dual Row Right Angled with SMT Solder Tabs (Selective Gold), pitch 3mm, 10p; Manufacturer: Wurth Elektronik; Contact Resistance: 10mOhm; Insulation Resistance: >1000MOhm; Rated Current: 5A; Working Voltage: 250V (AC); Manufacturer Part Number: 662110231724; Category: Wire-to-Board Connectors; Match Code: WR-MPC3; ComponentLink1Description: Datasheet; ComponentLink1URL: https://www.we-online.com/redexpert/spec/662110231724?ad; Mount: Surface Mount; Operating Temperature Max: 105°C; Operating Temperature Min: -40°C; Packaging: Tape and Reel; Gender: Male; Number of Pins: 10; Number of Rows: 2; Orientation: Right Angled; Pitch: 3mm; LCSC Part #: N/A; Supplier 1: Mouser; Supplier 1 Part Number: N/A; Supplier 1 URL: N/A; Supplier 2: Digi-Key; Supplier 2 Part Number: N/A; Supplier 2 URL: N/A; Supplier 3: thegioiic; Supplier 3 Part Number: N/A; Supplier 3 URL: N/A
footprint 662110231724
pins: 1, 2, 3, 4, 5, 6, 7, 8, 9, 10

## 662110236022
designator P?  (value not drawn)
WR-MPC3 SMT Male Right Angled Header with Plastic Pegs, pitch 3mm, 10p; Manufacturer: Wurth Elektronik; Contact Resistance: 10mOhm; Insulation Resistance: >1000MOhm; Rated Current: 5A; Working Voltage: 250V (AC); Manufacturer Part Number: 662110236022; Category: Wire-to-Board Connectors; Match Code: WR-MPC3; ComponentLink1Description: Datasheet; ComponentLink1URL: https://www.we-online.com/redexpert/spec/662110236022?ad; Mount: Surface Mount; Operating Temperature Max: 105°C; Operating Temperature Min: -40°C; Packaging: Tape and Reel; Length: 18.7mm; Width: 9.9mm; Height: 8.76mm; Gender: Male; Number of Pins: 10; Number of Rows: 2; Orientation: Right Angled; Pitch: 3mm; LCSC Part #: N/A; Supplier 1: Mouser; Supplier 1 Part Number: N/A; Supplier 1 URL: N/A; Supplier 2: Digi-Key; Supplier 2 Part Number: N/A; Supplier 2 URL: N/A; Supplier 3: thegioiic; Supplier 3 Part Number: N/A; Supplier 3 URL: N/A
footprint 662110236022
pins: 1, 2, 3, 4, 5, 6, 7, 8, 9, 10